# EAGLE library part DISPLAY_TILE (library john)
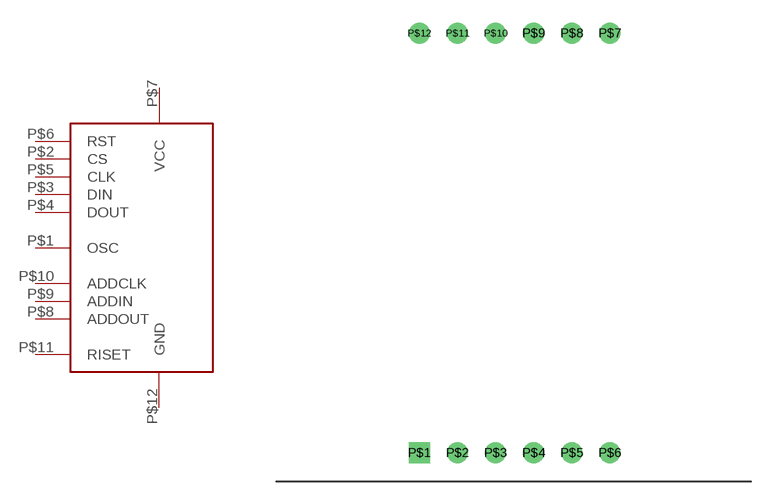
[diagram p5: symbol with the pads of DISPLAY_TILE; footprint DISPLAY_TILE]

Designator prefix -

## DISPLAY_TILE  [DISPLAY_TILE]
P$1  OSC
P$2  CS
P$3  DIN
P$4  DOUT
P$5  CLK
P$6  RST
P$7  VCC
P$8  ADDOUT
P$9  ADDIN
P$10  ADDCLK
P$11  RISET
P$12  GND

## Footprint DISPLAY_TILE (pad centres in mm)
drill 0.9 square: P$1 9.525,1.905
drill 0.9 round: P$2 12.065,1.905; P$3 14.605,1.905; P$4 17.145,1.905; P$5 19.685,1.905; P$6 22.225,1.905; P$7 22.225,29.845; P$8 19.685,29.845; P$9 17.145,29.845; P$10 14.605,29.845; P$11 12.065,29.845; P$12 9.525,29.845